# Altium schematic symbol library 功率电子开关.SchLib: 1 symbol
Pins are listed as number, name and electrical type; pins without a type are passive.

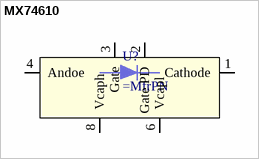
[diagram p0: symbol MX74610]

## MX74610
designator U?
pins: 1 Cathode, 2 Gate PD, 3 Gate, 4 Andoe, 6 Vcapl, 8 Vcaph